# Altium footprint library PcbLib1.PcbLib: 22 footprints (part 1 of 2)
Each footprint in its own frame and in the unit in brackets; x right, y up, seen from the top. Pads: shape width x height; smd on the part's side, far side on the other; paste and mask are expansions set on the pad; w line width, h text height; cw(c..) or ccw(c..) is an arc to the next point about the centre after c.
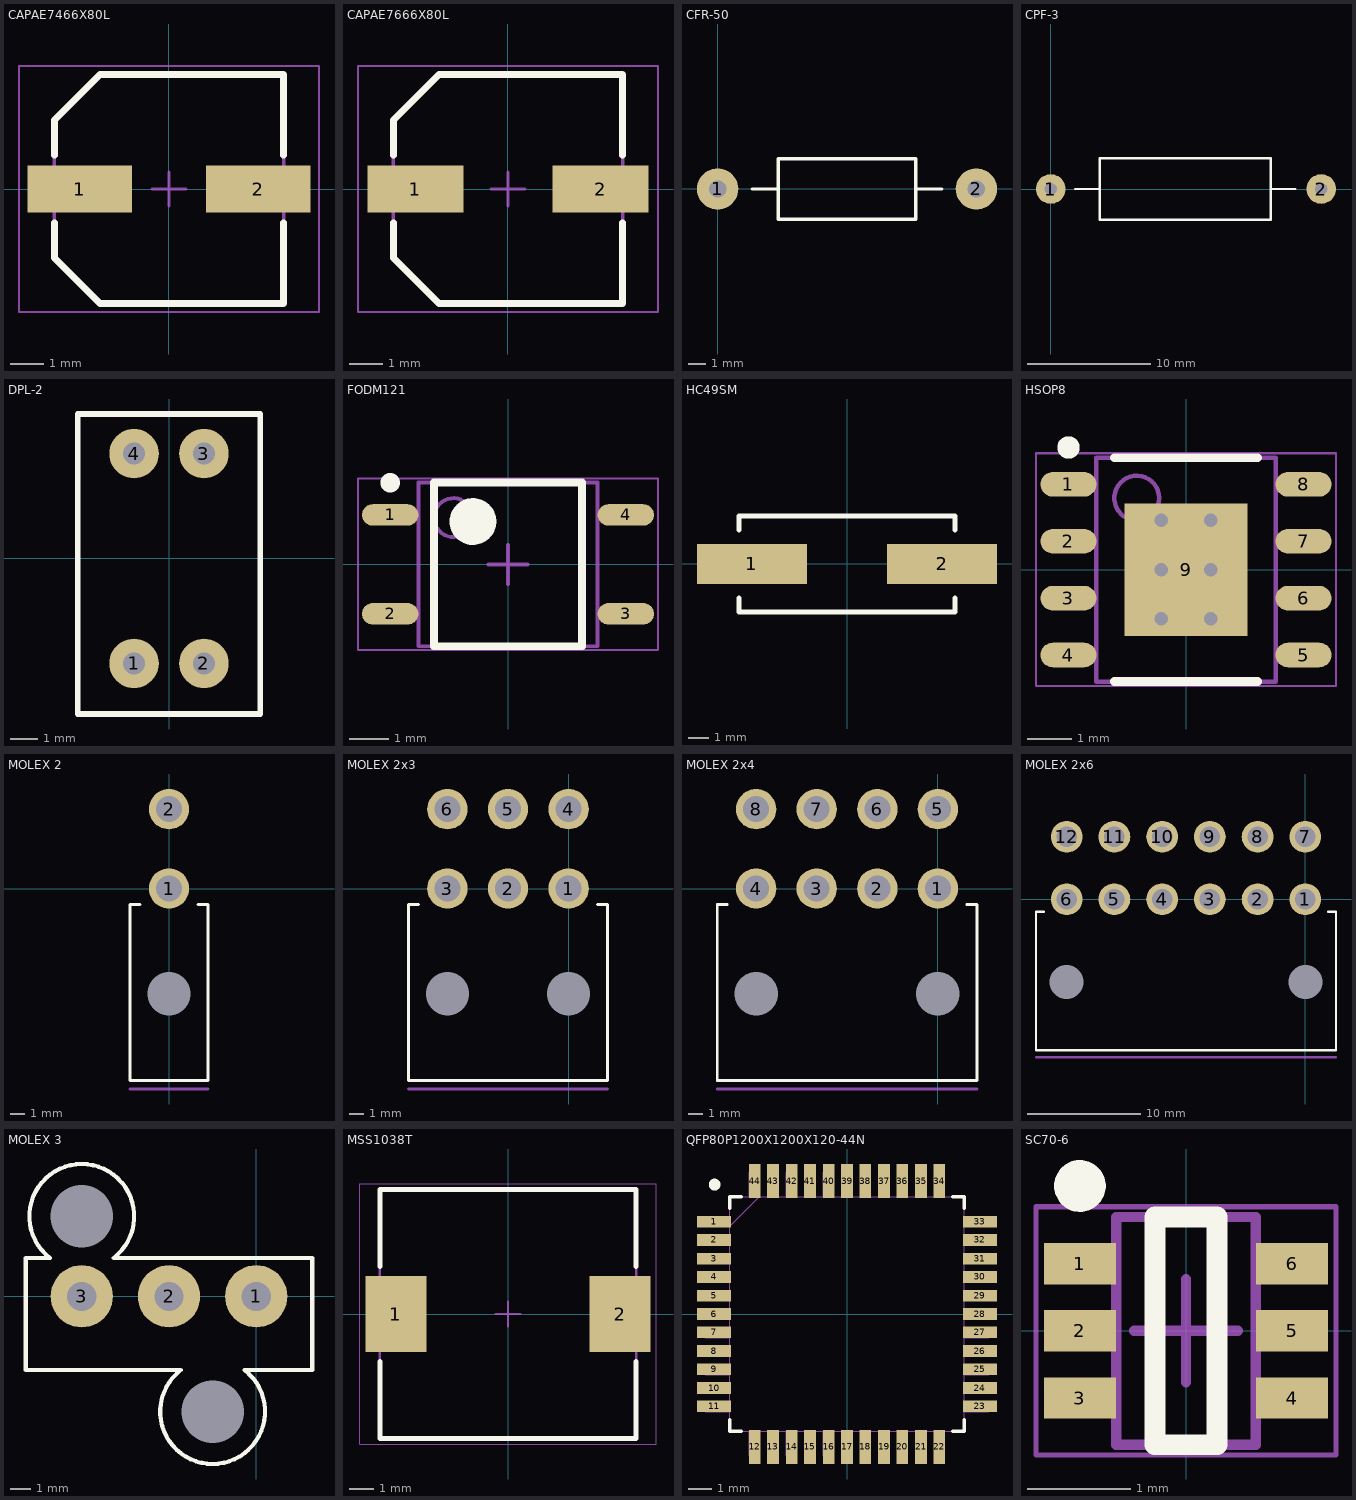
[diagram p0: the footprints below, top view; thin cyan lines are the x and y axes]

## CAPAE7466X80L [mm] "Aluminum Electrolytic Capacitor, Body 6,60x6,60x8,00mm, IPC High Density"
height 8
pads (2):
  rect 3.1x1.4 smd: 1(-2.65,0) 2(2.65,0)
Top Overlay:
  lines w0.2: -3.4,-1 -3.4,-2.05 -2.05,-3.4 3.4,-3.4 3.4,-1 ; -3.4,1 -3.4,2.05 -2.05,3.4 3.4,3.4 3.4,1
Mechanical 13:
  lines w0.1: -3.4,-2.05 -2.05,-3.4 3.4,-3.4 3.4,3.4 -2.05,3.4 -3.4,2.05 -3.4,-2.05
Mechanical 15:
  lines w0.05: -4.45,-3.65 -4.45,3.65 4.45,3.65 4.45,-3.65 -4.45,-3.65
  lines w0.1: -0.5,0 0.5,0 ; 0,-0.5 0,0.5
3D body "CAPAE7466X80L.step": height 8, standoff 0, extent -3.7,-3.4 3.7,3.4

## CAPAE7666X80L [mm] "Aluminum Electrolytic Capacitor, Body 6,60x6,60x8,00mm, IPC High Density"
height 8
pads (2):
  rect 2.85x1.4 smd: 1(-2.75,0) 2(2.75,0)
Top Overlay:
  lines w0.2: -3.4,-1 -3.4,-2.05 -2.05,-3.4 3.4,-3.4 3.4,-1 ; -3.4,1 -3.4,2.05 -2.05,3.4 3.4,3.4 3.4,1
Mechanical 13:
  lines w0.1: -3.4,-2.05 -3.4,2.05 -2.05,3.4 3.4,3.4 3.4,-3.4 -2.05,-3.4 -3.4,-2.05
Mechanical 15:
  lines w0.05: -4.45,-3.65 4.45,-3.65 4.45,3.65 -4.45,3.65 -4.45,-3.65
  lines w0.1: -0.5,0 0.5,0 ; 0,-0.5 0,0.5
3D body "CAPAE7666X80L.step": height 8, standoff 0, extent -3.8,-3.4 3.8,3.4

## CFR-50 [mm]
pads (2):
  round 2.4 hole 1: 1(0,0) 2(15,0)
Top Overlay:
  lines w0.2: 2,0 3.5,0 ; 11.5,0 13,0 ; 3.5,-1.75 3.5,1.75 11.5,1.75 11.5,-1.75 3.5,-1.75

## CPF-3 [mm]
height 4.6
pads (2):
  round 2.4 hole 1: 1(0,0) 2(22,0)
Top Overlay:
  lines w0.2: 2,0 4,0 ; 17.9,0 19.9,0 ; 4,-2.5 4,2.5 17.9,2.5 17.9,-2.5 4,-2.5

## DPL-2 [mm]
height 10.3
pads (4):
  round 1.8 hole 0.8: 1(-1.27,-3.81) 2(1.27,-3.81) 3(1.27,3.81) 4(-1.27,3.81)
Top Overlay:
  lines w0.2: -3.32,-5.65 -3.32,5.25 3.32,5.25 3.32,-5.65 -3.32,-5.65

## FODM121 [mm] "SOP, 4-Leads, Body 3,85x4,40mm, Pitch 2,54mm, IPC High Density"
height 2.4
pads (4):
  oval 1.45x0.55 smd: 1(-3.025,1.27) 2(-3.025,-1.27) 3(3.025,-1.27) 4(3.025,1.27)
Top Overlay:
  circle w0.25: c-3.025,2.095 r0.125
  circle w0.6: c-0.9,1.1 r0.3
  lines w0.2: -1.9,-2.1 -1.9,2.1 1.9,2.1 1.9,-2.1 -1.9,-2.1
Mechanical 13:
  circle w0.1: c-1.4,1.2 r0.5
  lines w0.1: -2.3,-2.1 -2.3,2.1 2.3,2.1 2.3,-2.1 -2.3,-2.1
Mechanical 15:
  lines w0.05: -3.85,-2.2 -3.85,2.2 3.85,2.2 3.85,-2.2 -3.85,-2.2
  lines w0.1: -0.5,0 0.5,0 ; 0,-0.5 0,0.5
3D body "FODM121.step": height 2.4, standoff 0, extent -3.375,-2.1 3.375,2.1

## HC49SM [mm]
pads (2):
  rect 5.5x2 smd: 1(-4.75,0) 2(4.75,0)
Top Overlay:
  lines w0.254: -5.4,-1.7 -5.4,-2.4 5.4,-2.4 5.4,-1.7 ; -5.4,1.7 -5.4,2.4 5.4,2.4 5.4,1.7

## HSOP8 [mm] "SOP, 8-Leads, Body 4,90x3,90mm, Pitch 1,27mm, Thermal Pad 2,95x2,75mm, IPC High Density"
height 1.7
pads (9):
  oval 1.25x0.55 smd: 1(-2.625,1.905) 2(-2.625,0.635) 3(-2.625,-0.635) 4(-2.625,-1.905) 5(2.625,-1.905) 6(2.625,-0.635) 7(2.625,0.635) 8(2.625,1.905)
  rect 2.75x2.95 smd: 9(0,0)
via 0.55,-1.1 diameter 0.7 hole 0.3
via -0.55,-1.1 diameter 0.7 hole 0.3
via 0.55,0 diameter 0.7 hole 0.3
via -0.55,0 diameter 0.7 hole 0.3
via 0.55,1.1 diameter 0.7 hole 0.3
via -0.55,1.1 diameter 0.7 hole 0.3
Top Overlay:
  circle w0.25: c-2.625,2.73 r0.125
  lines w0.2: -1.6,-2.5 1.6,-2.5 ; -1.6,2.5 1.6,2.5
Mechanical 13:
  circle w0.1: c-1.1,1.6 r0.5
  lines w0.1: -2,-2.5 2,-2.5 2,2.5 -2,2.5 -2,-2.5
Mechanical 15:
  lines w0.05: -3.35,-2.6 3.35,-2.6 3.35,2.6 -3.35,2.6 -3.35,-2.6
  lines w0.1: -0.5,0 0.5,0 ; 0,-0.5 0,0.5
3D body "SOP127P600X170_HS-9L.step": height 1.7, standoff 0, extent -3,-2.5 3,2.5

## MOLEX 2 [mm]
height 10
pads (3):
  round 2.8 hole 1.8: 1(0,0) 2(0,5.5)
  round 0 hole 3 unplated mask+0.102: ""(0,-7.3)
Top Overlay:
  lines w0.2: -2,-1.1 -2.7,-1.1 -2.7,-13.3 2.7,-13.3 2.7,-1.1 2,-1.1
Mechanical 1:
  lines w0.2: -2.7,-13.9 2.7,-13.9

## MOLEX 2x3 [mm]
height 10
pads (8):
  round 2.8 hole 1.8: 1(0,0) 2(-4.2,0) 3(-8.4,0) 4(0,5.5) 5(-4.2,5.5) 6(-8.4,5.5)
  round 0 hole 3 unplated mask+0.102: ""(-8.4,-7.3) ""(0,-7.3)
Top Overlay:
  lines w0.2: -10.4,-1.1 -11.1,-1.1 -11.1,-13.3 2.7,-13.3 2.7,-1.1 2,-1.1
Mechanical 1:
  lines w0.2: -11.1,-13.9 2.7,-13.9

## MOLEX 2x4 [mm]
height 10
pads (10):
  round 2.8 hole 1.8: 1(0,0) 2(-4.2,0) 3(-8.4,0) 4(-12.6,0) 5(0,5.5) 6(-4.2,5.5) 7(-8.4,5.5) 8(-12.6,5.5)
  round 0 hole 3 unplated mask+0.102: ""(-12.6,-7.3) ""(0,-7.3)
Top Overlay:
  lines w0.2: -14.6,-1.1 -15.3,-1.1 -15.3,-13.3 2.7,-13.3 2.7,-1.1 2,-1.1
Mechanical 1:
  lines w0.2: -15.3,-13.9 2.7,-13.9

## MOLEX 2x6 [mm]
height 10
pads (14):
  round 2.8 hole 1.8: 1(0,0) 2(-4.2,0) 3(-8.4,0) 4(-12.6,0) 5(-16.8,0) 6(-21,0) 7(0,5.5) 8(-4.2,5.5) 9(-8.4,5.5) 10(-12.6,5.5) 11(-16.8,5.5) 12(-21,5.5)
  round 0 hole 3 unplated mask+0.102: ""(-21,-7.3) ""(0,-7.3)
Top Overlay:
  lines w0.2: -23,-1.1 -23.7,-1.1 -23.7,-13.3 2.7,-13.3 2.7,-1.1 2,-1.1
Mechanical 1:
  lines w0.2: -23.7,-13.9 2.7,-13.9

## MOLEX 3 [mm] "VERTICAL HEADER ASSEMBLY SINGLE ROW, 3 CKT MINI-FIT PLUS HCS SERIES"
height 12.45
pads (5):
  round 3 hole 1.4: 1(0,0) 2(-4.2,0) 3(-8.4,0)
  round 0 hole 3 unplated mask+0.102: ""(-8.4,3.85) ""(-2.1,-5.55)
Top Overlay:
  lines w0.2: 2.699,1.851 -6.862,1.851 ccw(c-8.4,3.85) -9.937,1.85 -11.1,1.85 -11.1,-3.55 -3.637,-3.55 ccw(c-2.1,-5.55) -0.563,-3.55 2.7,-3.55 2.7,1.85

## MSS1038T [mm] "Precision Wire Wound Inductor, 2-Leads, Body 10,20x10,00mm, IPC Medium Density"
height 4
pads (2):
  rect 2.5x3.1 smd: 1(-4.6,0) 2(4.6,0)
Top Overlay:
  lines w0.2: -5.25,-1.95 -5.25,-5.1 5.25,-5.1 5.25,-1.95 ; -5.25,1.95 -5.25,5.1 5.25,5.1 5.25,1.95
Mechanical 13:
  lines w0.1: -5.25,-5.1 5.25,-5.1 5.25,5.1 -5.25,5.1 -5.25,-5.1
Mechanical 15:
  lines w0.05: -6.075,-5.35 6.075,-5.35 6.075,5.35 -6.075,5.35 -6.075,-5.35
  lines w0.1: -0.5,0 0.5,0 ; 0,-0.5 0,0.5
3D body "INDP102100X40N.step": height 4.1, standoff 0, extent -5.2,-5 5.2,5

## QFP80P1200X1200X120-44N [mil]
pads (44):
  rect 58x20 smd: 1(-226,157) 2(-226,126) 3(-226,94) 4(-226,63) 5(-226,31) 6(-226,0) 7(-226,-31) 8(-226,-63) 9(-226,-94) 10(-226,-126) 11(-226,-157) 23(226,-157) 24(226,-126) 25(226,-94) 26(226,-63) 27(226,-31) 28(226,0) 29(226,31) 30(226,63) 31(226,94) 32(226,126) 33(226,157)
  rect 20x58 smd: 12(-157,-226) 13(-126,-226) 14(-94,-226) 15(-63,-226) 16(-31,-226) 17(0,-226) 18(31,-226) 19(63,-226) 20(94,-226) 21(126,-226) 22(157,-226) 34(157,226) 35(126,226) 36(94,226) 37(63,226) 38(31,226) 39(0,226) 40(-31,226) 41(-63,226) 42(-94,226) 43(-126,226) 44(-157,226)
Top Overlay:
  circle w10: c-225,220 r5
  lines w6: -199,-180 -199,-199 -180,-199 ; -199,180 -199,199 -180,199 ; 180,-199 199,-199 199,-180 ; 180,199 199,199 199,180
Mechanical 13:
  drawing of 181 lines, arcs and shapes, not listed

## SC70-6 [mm] "SOT23, 6-Leads, Body 2,00x2,10mm, Pitch 0,65mm, IPC High Density"
height 1.1
pads (6):
  rect 0.7x0.4 smd mask+0.05: 1(-1.025,0.65) 2(-1.025,0) 3(-1.025,-0.65) 4(1.025,-0.65) 5(1.025,0) 6(1.025,0.65)
Top Overlay:
  circle w0.25: c-1.025,1.4 r0.125
  lines w0.2: -0.3,-1.1 0.3,-1.1 0.3,1.1 -0.3,1.1 -0.3,-1.1
Mechanical 13:
  lines w0.1: -0.675,-1.1 -0.675,1.1 0.675,1.1 0.675,-1.1 -0.675,-1.1
Mechanical 15:
  lines w0.05: -1.45,-1.2 -1.45,1.2 1.45,1.2 1.45,-1.2 -1.45,-1.2
  lines w0.1: -0.5,0 0.5,0 ; 0,-0.5 0,0.5
3D body "SOT65P210X110-6L.step": height 1.1, standoff 0, extent -1.3,-1.1 1.3,1.1